# Altium schematic symbol library Panasonic Aluminum Electrolytic Capacitors (Surface Mount Type).SchLib: 1 symbol
Pins are listed as number, name and electrical type; pins without a type are passive.

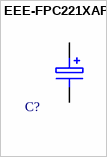
[diagram p0: symbol EEE-FPC221XAP]

## EEE-FPC221XAP
designator C?
220μF 16V Aluminum Electrolytic Capacitors Radial, Can - SMD 160 mohm @ 100kHz 2000 Hrs @ 105°C; Manufacturer: Panasonic Electronic Components; PartNumber: EEE-FPC221XAP; Package: SMD-EC-F6.3; PackageDescription: SMD Aluminum Electrolytic Capacitors, Dia 6.3mm, Height 7.7mm; Supplier 1: Digi-Key; Supplier Part Number 1: PCE4537TR-ND
footprint SMD-EC-F6.3
pins: 1, 2